# Altium schematic symbol library Кварцевые резонаторы.SchLib: 3 symbols
Pins are listed as number, name and electrical type; pins without a type are passive.

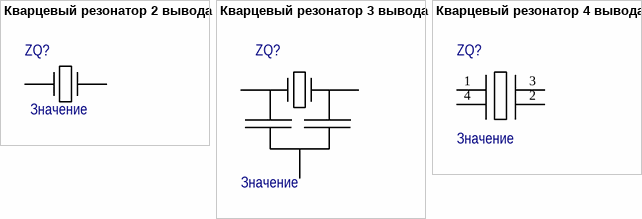
[diagram p0: symbols Кварцевый резонатор 2 вывода to Кварцевый резонатор 4 вывода]

## Кварцевый резонатор 2 вывода
designator ZQ?, comment Значение
Кварцевый резонатор; Value: Значение; Part: *; Alternative part: *; ComponentLink1Description: Link; ComponentLink1URL: *; ComponentLink2Description: Alternative link; ComponentLink2URL: *
pins: 1, 2

## Кварцевый резонатор 3 вывода
designator ZQ?, comment Значение
Кварцевый резонатор; Value: Значение; Part: *; Alternative part: *; ComponentLink1Description: Link; ComponentLink1URL: *; ComponentLink2Description: Alternative link; ComponentLink2URL: *
footprint CSTCR
pins: 1, 2, 3

## Кварцевый резонатор 4 вывода
designator ZQ?, comment Значение
Кварцевый резонатор; Value: Значение; Part: *; Alternative part: *
pins: 1, 2, 3, 4